# Altium footprint library PCB - SWITCH - EVQ-P7A01P.PcbLib: 1 footprints
Each footprint in its own frame and in the unit in brackets; x right, y up, seen from the top. Pads: shape width x height; smd on the part's side, far side on the other; paste and mask are expansions set on the pad; w line width, h text height; cw(c..) or ccw(c..) is an arc to the next point about the centre after c.
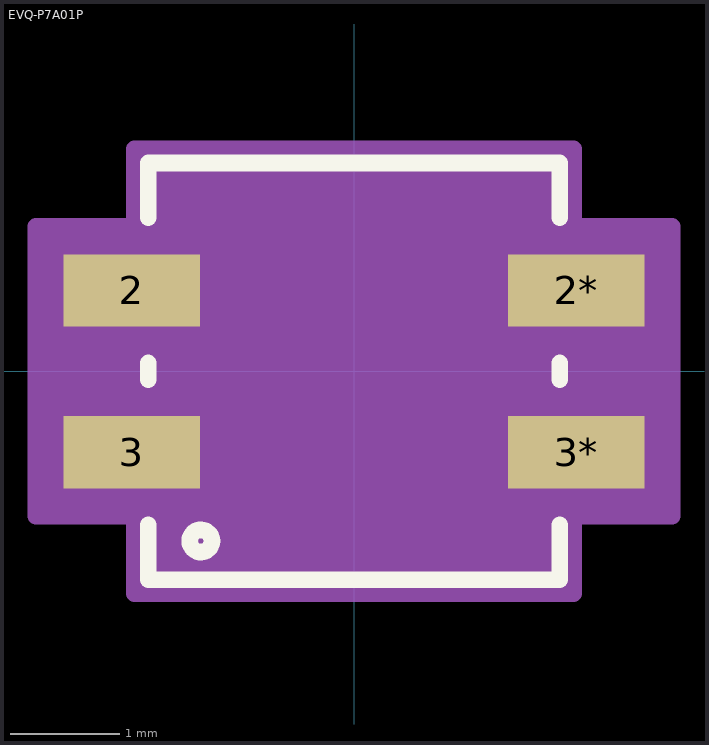
[diagram p0: the footprint, top view; thin cyan lines are the x and y axes]

## EVQ-P7A01P [mil]
pads (4):
  rect 49x26 smd paste+0 mask+0: 2(-80,29.13) 2*(80,29.13) 3(-80,-29.13) 3*(80,-29.13)
Top Overlay:
  circle w6: c-55.12,-61.02 r4
  lines w6: -74,-55.23 -74,-75 74,-75 74,-55.23 ; -74,-3.03 -74,3.03 ; -74,55.23 -74,75 74,75 74,55.23 ; 74,-3.03 74,3.03
Mechanical 13:
  lines w0: -12.98,-69.88 cw(c-0.98,-69.88) 11.02,-69.88
  lines w1: -69,-70 -69,70 69,70 69,-70 -69,-70
Mechanical 15:
  region: -79,-52.13 -114.5,-52.13 -114.5,52.13 -79,52.13 -79,80 79,80 79,52.13 114.5,52.13 114.5,-52.13 79,-52.13 79,-80 -79,-80
  lines w6: -114.5,-52.13 -79,-52.13 -79,-80 79,-80 79,-52.13 114.5,-52.13 114.5,52.13 79,52.13 79,80 -79,80 -79,52.13 -114.5,52.13 -114.5,-52.13
3D body "EVQ_P7_PAN.STEP": height 53.15, standoff 0, extent -93.5,-82.67 91.54,57.1